# EAGLE library part IS25LP128F-JBLA3 (library SamacSys_Parts)
NOR Flash 128M 2.3-3.6V 166Mhz Serial NOR Flash Source: Datasheet <http://www.issi.com/WW/pdf/25LP-WP128F.pdf>
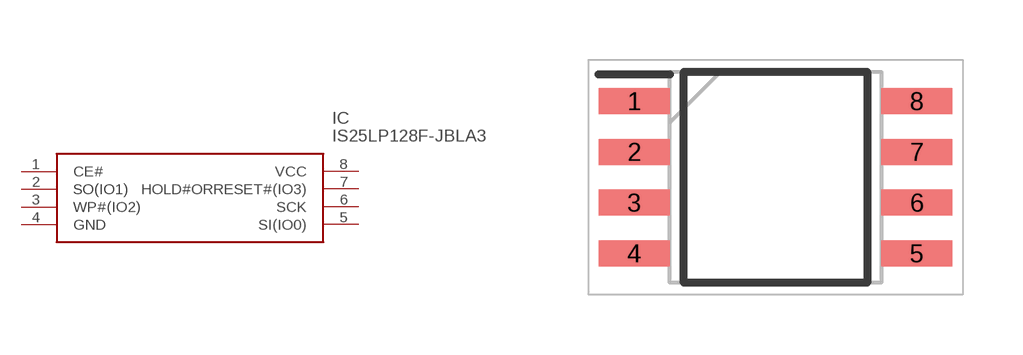
[diagram p3: symbol with the pads of SOIC127P790X216-8N; footprint SOIC127P790X216-8N]

Designator prefix IC

## IS25LP128F-JBLA3 (DESCRIPTION: NOR Flash 128M 2.3-3.6V 166Mhz Serial NOR Flash; HEIGHT: 2.16mm; MANUFACTURER_NAME: Integrated Silicon Solution Inc.; MANUFACTURER_PART_NUMBER: IS25LP128F-JBLA3; MOUSER_PART_NUMBER: 870-IS25LP128F-JBLA3; MOUSER_PRICE-STOCK: https://www.mouser.com/Search/Refine.aspx?Keyword=870-IS25LP128F-JBLA3)  [SOIC127P790X216-8N]
1  CE#
2  SO(IO1)
3  WP#(IO2)
4  GND
5  SI(IO0)
6  SCK
7  HOLD#ORRESET#(IO3)
8  VCC

## Footprint SOIC127P790X216-8N (pad centres in mm)
IS25LP128F-JBLA3
smd 1.785 x 0.65: 1 -3.532,1.905; 2 -3.532,0.635; 3 -3.532,-0.635; 4 -3.532,-1.905; 5 3.532,-1.905; 6 3.532,-0.635; 7 3.532,0.635; 8 3.532,1.905